# Altium footprint library SW_A101SYZQ04.PcbLib: 1 footprints
Each footprint in its own frame and in the unit in brackets; x right, y up, seen from the top. Pads: shape width x height; smd on the part's side, far side on the other; paste and mask are expansions set on the pad; w line width, h text height; cw(c..) or ccw(c..) is an arc to the next point about the centre after c.
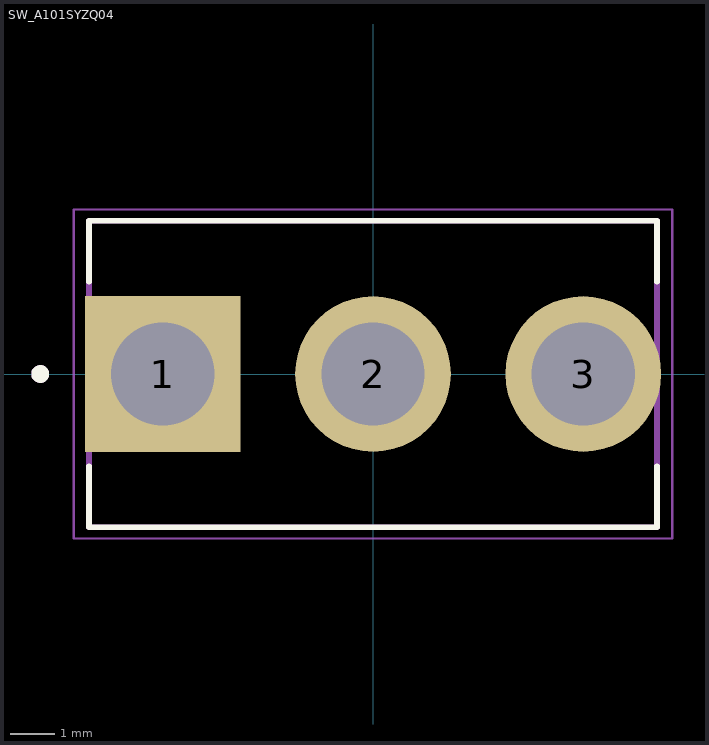
[diagram p0: the footprint, top view; thin cyan lines are the x and y axes]

## SW_A101SYZQ04 [mil]
height 1110.24
pads (3):
  rect 137x137 / inner round 137 / far side rect 137x137 hole 91: 1(-185,0)
  round 137 hole 91: 2(0,0) 3(185,0)
Top Overlay:
  circle w7.87: c-292.87,0 r3.94
  lines w5: -250,-81.1 -250,-135 250,-135 250,-81.1 ; -250,81.1 -250,135 250,135 250,81.1
Assembly Top:
  circle w7.87: c-292.87,0 r3.94
  lines w5: -250,-135 -250,135 250,135 250,-135 -250,-135
Courtyard Top:
  lines w1.97: -263.34,-144.84 -263.34,144.84 263.34,144.84 263.34,-144.84 -263.34,-144.84